# EAGLE library part 61302425721 (library Wurth_Elektronik_Electromechanic_Board_to_Board_Connectors_rev16a)
WR-PHD 2.54mm Dual Socket Header Bottom Entry, 24 Pins =>Code : Con_BTB_SHD_2.54_2_61302425721 <http://katalog.we-online.de/media/images/eican/Con_BTB_SHD_2.54_2_6130xx25721_pf2.jpg> Details see: http://katalog.we-online.de/en/em/613_0xx_257_21 Created 2014-05-30, Karrer Zheng 2014 (C) Würth Elektronik
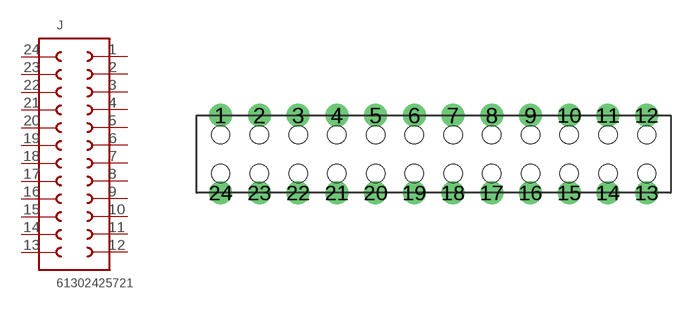
[diagram p162: symbol with the pads of 61302425721; footprint 61302425721]

Designator prefix J

## 61302425721  [61302425721]
1  1  pas
2  2  pas
3  3  pas
4  4  pas
5  5  pas
6  6  pas
7  7  pas
8  8  pas
9  9  pas
10  10  pas
11  11  pas
12  12  pas
13  13  pas
14  14  pas
15  15  pas
16  16  pas
17  17  pas
18  18  pas
19  19  pas
20  20  pas
21  21  pas
22  22  pas
23  23  pas
24  24  pas

## Footprint 61302425721 (pad centres in mm)
WR-PHD 2.54mm Dual Socket Header Bottom Entry, 24 Pins
drill 1: 1 -16.51,2.54; 2 -13.97,2.54; 3 -11.43,2.54; 4 -8.89,2.54; 5 -6.35,2.54; 6 -3.81,2.54; 7 -1.27,2.54; 8 1.27,2.54; 9 3.81,2.54; 10 6.35,2.54; 11 8.89,2.54; 12 11.43,2.54; 13 11.43,-2.54; 14 8.89,-2.54; 15 6.35,-2.54; 16 3.81,-2.54; 17 1.27,-2.54; 18 -1.27,-2.54; 19 -3.81,-2.54; 20 -6.35,-2.54; 21 -8.89,-2.54; 22 -11.43,-2.54; 23 -13.97,-2.54; 24 -16.51,-2.54
hole 1.2 at -16.51,1.27
hole 1.2 at -13.97,1.27
hole 1.2 at -11.43,1.27
hole 1.2 at -8.89,1.27
hole 1.2 at -6.35,1.27
hole 1.2 at -3.81,1.27
hole 1.2 at -1.27,1.27
hole 1.2 at 1.27,1.27
hole 1.2 at 3.81,1.27
hole 1.2 at 6.35,1.27
hole 1.2 at 8.89,1.27
hole 1.2 at 11.43,1.27
hole 1.2 at -16.51,-1.27
hole 1.2 at -13.97,-1.27
hole 1.2 at -11.43,-1.27
hole 1.2 at -8.89,-1.27
hole 1.2 at -6.35,-1.27
hole 1.2 at -3.81,-1.27
hole 1.2 at -1.27,-1.27
hole 1.2 at 1.27,-1.27
hole 1.2 at 3.81,-1.27
hole 1.2 at 6.35,-1.27
hole 1.2 at 8.89,-1.27
hole 1.2 at 11.43,-1.27